# Altium footprint library Capasitors_Polarized.PcbLib: 6 footprints
Each footprint in its own frame and in the unit in brackets; x right, y up, seen from the top. Pads: shape width x height; smd on the part's side, far side on the other; paste and mask are expansions set on the pad; w line width, h text height; cw(c..) or ccw(c..) is an arc to the next point about the centre after c.
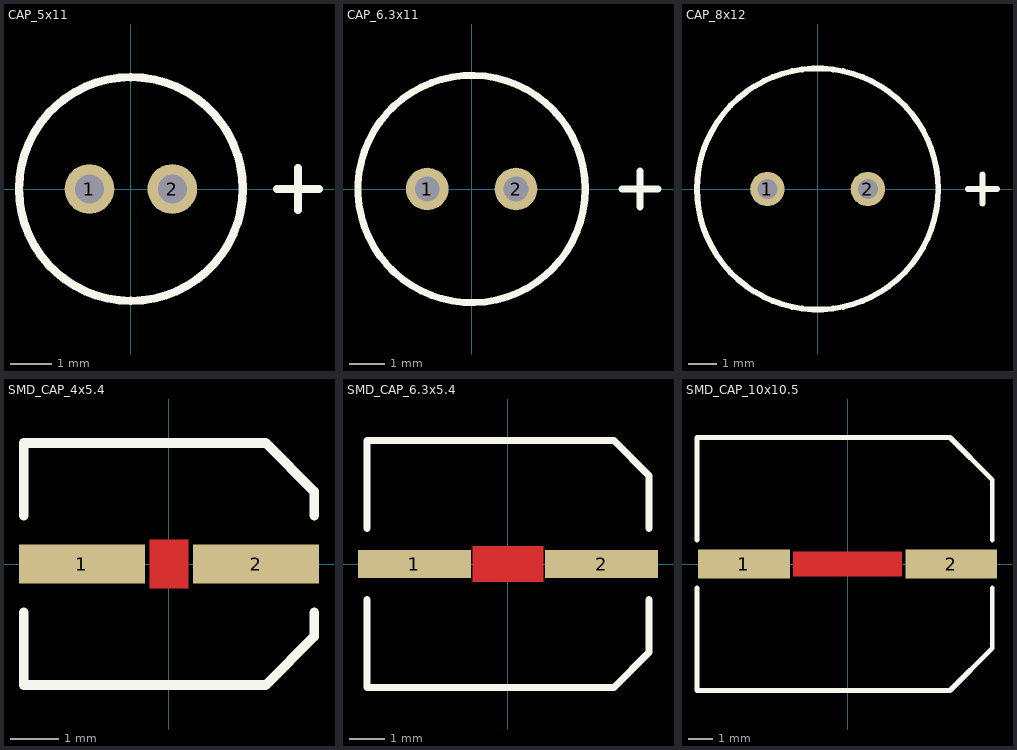
[diagram p0: the footprints below, top view; thin cyan lines are the x and y axes]

## CAP_5x11 [mm]
pads (2):
  round 1.2 hole 0.7: 1(-1,0) 2(1,0)
Top Overlay:
  circle w0.2: c0,0 r2.7
  lines w0.2: 3.523,0 4.539,0 ; 4.031,-0.508 4.031,0.508
3D body "Panasonic FC 5x11.step": height 12, standoff -16.3, extent -2.5,-2.5 2.5,2.497

## CAP_6.3x11 [mm]
pads (2):
  round 1.2 hole 0.7: 1(-1.25,0) 2(1.25,0)
Top Overlay:
  circle w0.2: c0,0 r3.2
  lines w0.2: 4.232,0 5.248,0 ; 4.74,-0.508 4.74,0.508
3D body "Panasonic FC 6,3x11,2.step": height 12.2, standoff -16.3, extent -3.15,-3.15 3.15,3.15

## CAP_8x12 [mm]
pads (2):
  round 1.2 hole 0.7: 1(-1.75,0) 2(1.75,0)
Top Overlay:
  circle w0.2: c0,0 r4.2
  lines w0.2: 5.232,0 6.248,0 ; 5.74,-0.508 5.74,0.508
3D body "Nichicon MUSE 8x11,5.step": height 12.5, standoff -18.3, extent -4,-4 4,4

## SMD_CAP_4x5.4 [mm]
pads (2):
  rect 2.6x0.8 smd: 1(-1.8,0) 2(1.8,0)
Top Layer:
  pour cut-out: 0.4,0.504 0.4,0.5 0.4,-0.5 -0.4,-0.5 -0.4,0.5
Top Overlay:
  lines w0.2: -3,-1 -3,-2.5 2,-2.5 3,-1.5 3,-1 ; -3,1 -3,2.5 2,2.5 3,1.5 3,1
3D body "CP_Elec_4x5.4.step": height 5.4, standoff 0, extent -2.75,-2.15 2.75,2.15

## SMD_CAP_6.3x5.4 [mm]
pads (2):
  rect 3.2x0.8 smd: 1(-2.65,0) 2(2.65,0)
Top Layer:
  pour cut-out: -1,0.5 -1,-0.5 1,-0.5 1,0.5
Top Overlay:
  lines w0.2: -4,-1 -4,-3.5 3,-3.5 4,-2.5 4,-1 ; -4,1 -4,3.5 3,3.5 4,2.5 4,1
3D body "CP_Elec_6.3x5.4.step": height 5.4, standoff 0, extent -3.9,-3.3 3.9,3.3

## SMD_CAP_10x10.5 [mm]
pads (2):
  rect 3.8x1.2 smd: 1(-4.3,0) 2(4.3,0)
Top Layer:
  pour cut-out: -2.25,0.5 -2.25,-0.5 2.25,-0.5 2.25,0.5
Top Overlay:
  lines w0.2: -6.25,-1 -6.25,-5.25 4.25,-5.25 6,-3.5 6,-1 ; -6.25,1 -6.25,5.25 4.25,5.25 6,3.5 6,1
3D body "CP_Elec_10x10.5.step": height 10.5, standoff 0, extent -6.1,-5.15 5.9,5.15